# EAGLE library part MICROCHIP_MCP3008-I-P (library Upverter Library)
CON-ADC-MCP3008-16
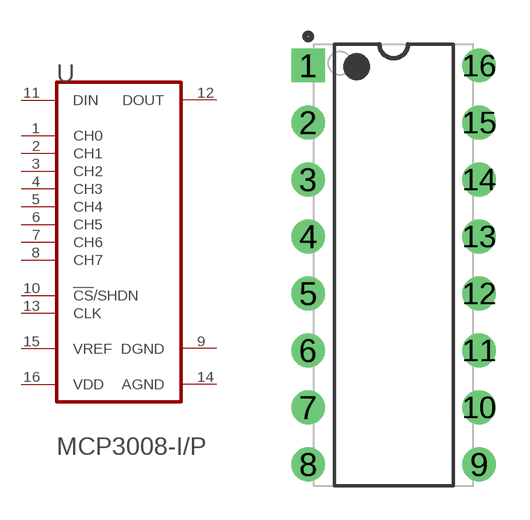
[diagram p0: symbol with the pads of MICROCHIP_MCP3008-I-P_0; footprint MICROCHIP_MCP3008-I-P_0]

Designator prefix U

## MICROCHIP_MCP3008-I-PMICROCHIP_MCP3008-I-P_0_0 (Code__JEDEC: MS-001-BB; Component_Link_1_Description: Manufacturer URL; Component_Link_1_URL: http://www.microchip.com/; Component_Link_3_Description: Package Specification; Component_Link_3_URL: http://www.microchip.com/stellent/groups/techpub_sg/documents/packagingspec/en012702.pdf; Datasheet_Version: revD, Dec-2008; MF: Microchip; MPN: MCP3008-I/P; Package_Description: 16-Lead Plastic Dual In-Line (P) - 300 mil Body [PDIP]; Package_Version: revBB, Aug-2009; ciiva_ids: 1029167; datasheet: http://ww1.microchip.com/downloads/en/DeviceDoc/21295d.pdf; footprint_variant_name_0: Manufacturer Recommended; import_ts: 1521858609; imported: yes; imported_from: vault; package: PDIP300-P16; pin_0_0_4_inside_edge: clock; prefix: U; release_date: 1331947901; vault_guid: 2915DD49-D9E5-42B8-8D13-7AC3BE91A6A7; vault_revision: 766F0992-63B6-4F6C-8EA7-A406CB97F150)  [MICROCHIP_MCP3008-I-P_0]
1  CH0  in
2  CH1  in
3  CH2  in
4  CH3  in
5  CH4  in
6  CH5  in
7  CH6  in
8  CH7  in
9  DGND  pwr
10  !CS!/SHDN  in
11  DIN  in
12  DOUT  hiz
13  CLK  in
14  AGND  pwr
15  VREF  in
16  VDD  pwr

## Footprint MICROCHIP_MCP3008-I-P_0 (pad centres in mm)
CON-ADC-MCP3008-16
drill 0.9 pad 1.5 square: 1 -3.81,8.89
drill 0.9 pad 1.5 round: 2 -3.81,6.35; 3 -3.81,3.81; 4 -3.81,1.27; 5 -3.81,-1.27; 6 -3.81,-3.81; 7 -3.81,-6.35; 8 -3.81,-8.89; 9 3.81,-8.89; 10 3.81,-6.35; 11 3.81,-3.81; 12 3.81,-1.27; 13 3.81,1.27; 14 3.81,3.81; 15 3.81,6.35; 16 3.81,8.89